# Altium footprint library Synthiam-roundtrip2.PcbLib: 481 footprints (part 7 of 31)
Each footprint in its own frame and in the unit in brackets; x right, y up, seen from the top. Pads: shape width x height; smd on the part's side, far side on the other; paste and mask are expansions set on the pad; w line width, h text height; cw(c..) or ccw(c..) is an arc to the next point about the centre after c.
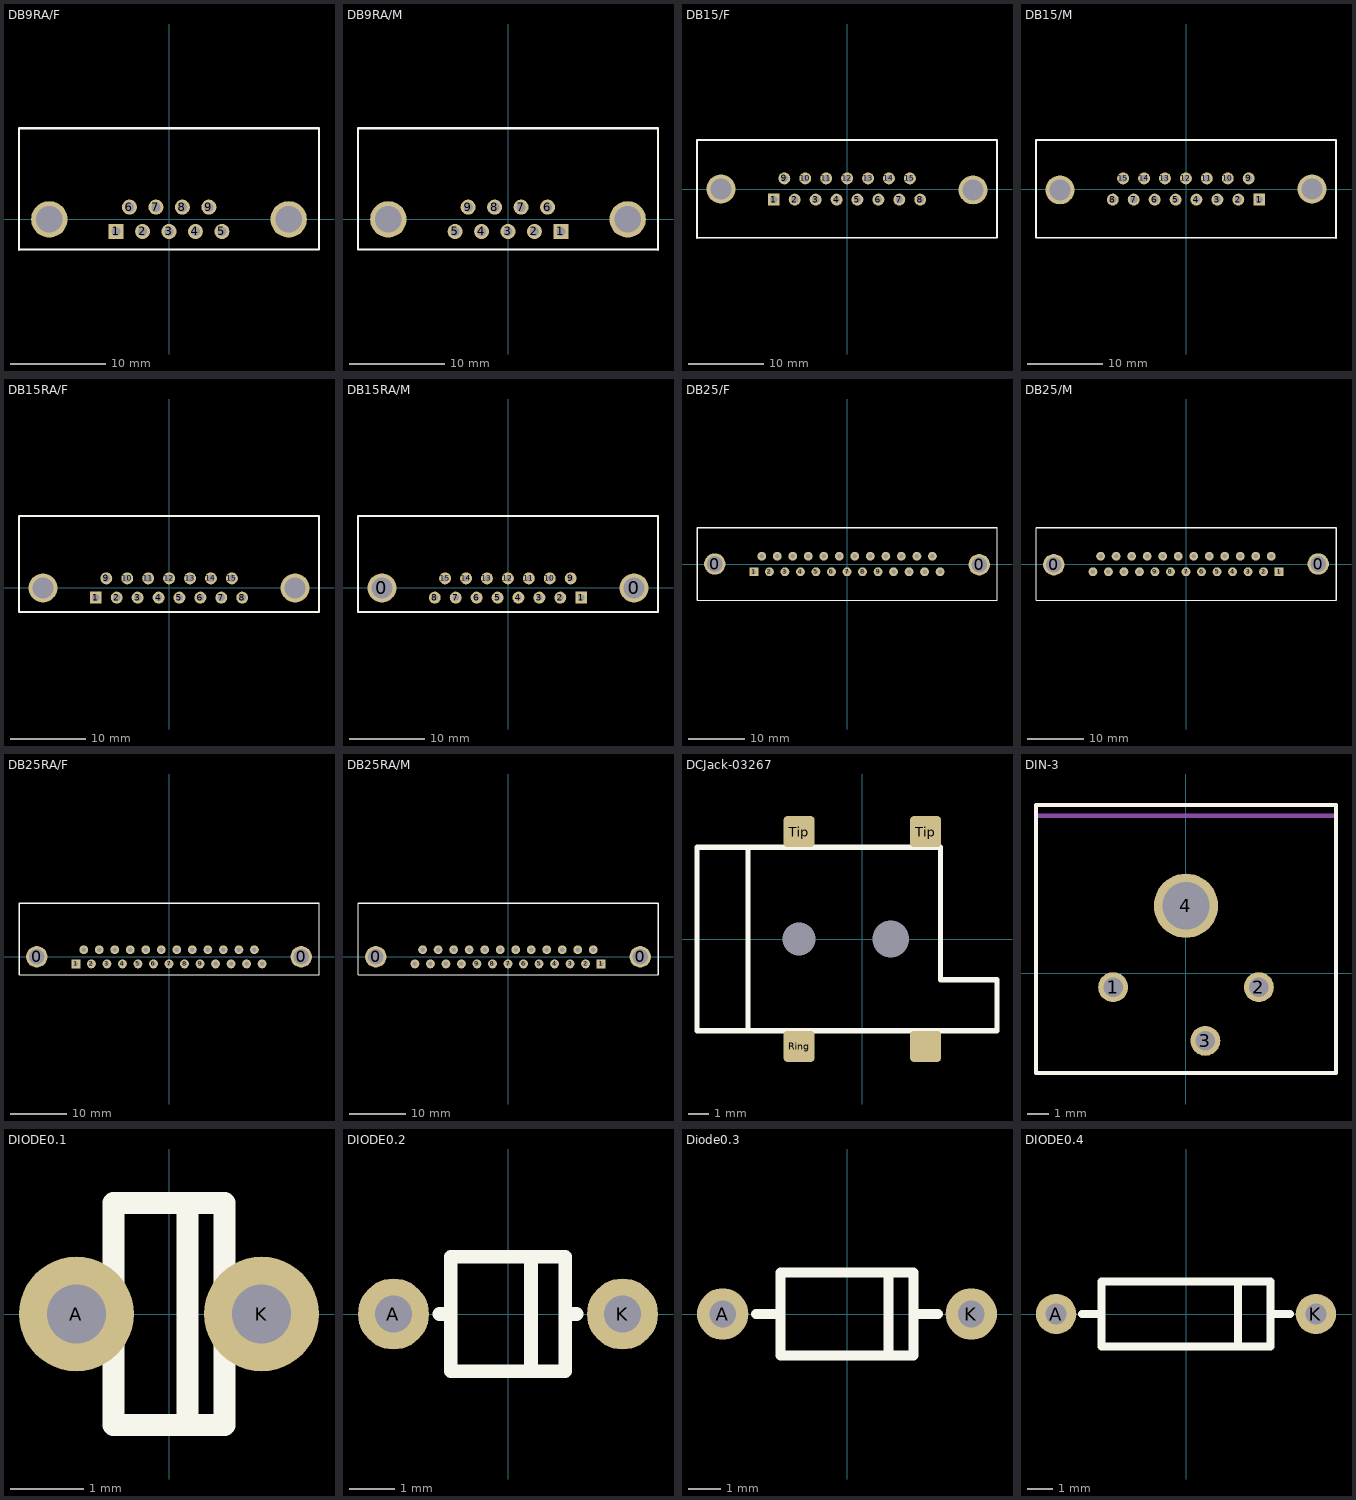
[diagram p6: the footprints below, top view; thin cyan lines are the x and y axes]

## DB9RA/F [mil]
pads (11):
  rect 62x62 hole 38: 1(-218,-50)
  round 62 hole 38: 2(-109,-50) 3(0,-50) 4(109,-50) 5(218,-50) 6(-163,50) 7(-54,50) 8(55,50) 9(164,50)
  round 150 hole 110: ""(-493,0) ""(493,0)
Top Overlay:
  lines w8: -618,-125 618,-125 618,375
  lines w10: -618,-125 -618,375 618,375

## DB9RA/M [mil]
pads (11):
  rect 62x62 hole 38: 1(218,-50)
  round 62 hole 38: 2(109,-50) 3(0,-50) 4(-109,-50) 5(-218,-50) 6(163,50) 7(54,50) 8(-55,50) 9(-164,50)
  round 150 hole 110: ""(-493,0) ""(493,0)
Top Overlay:
  lines w8: -618,375 -618,-125 618,-125
  lines w10: -618,375 618,375 618,-125

## DB15/F [mil]
pads (17):
  rect 62x62 hole 38: 1(-381.5,-55)
  round 62 hole 38: 2(-272.5,-55) 3(-163.5,-55) 4(-54.5,-55) 5(54.5,-55) 6(163.5,-55) 7(272.5,-55) 8(381.5,-55) 9(-326.5,55) 10(-217.5,55) 11(-108.5,55) 12(0.5,55) 13(109.5,55) 14(218.5,55) 15(327.5,55)
  round 150 hole 110: ""(-656.5,0) ""(656.5,-5)
Top Overlay:
  lines w8: -781.5,-255 781.5,-255 781.5,255
  lines w10: -781.5,-255 -781.5,255 781.5,255

## DB15/M [mil]
pads (17):
  rect 62x62 hole 38: 1(381.5,-55)
  round 62 hole 38: 2(272.5,-55) 3(163.5,-55) 4(54.5,-55) 5(-54.5,-55) 6(-163.5,-55) 7(-272.5,-55) 8(-381.5,-55) 9(326.5,55) 10(217.5,55) 11(108.5,55) 12(-0.5,55) 13(-109.5,55) 14(-218.5,55) 15(-327.5,55)
  round 150 hole 110: ""(-656.5,-5) ""(656.5,0)
Top Overlay:
  lines w8: -781.5,255 -781.5,-255 781.5,-255
  lines w10: -781.5,255 781.5,255 781.5,-255

## DB15RA/F [mil]
pads (17):
  rect 62x62 hole 38: 1(-381.5,-50)
  round 62 hole 38: 2(-272.5,-50) 3(-163.5,-50) 4(-54.5,-50) 5(54.5,-50) 6(163.5,-50) 7(272.5,-50) 8(381.5,-50) 9(-326.5,50) 10(-217.5,50) 11(-108.5,50) 12(0.5,50) 13(109.5,50) 14(218.5,50) 15(327.5,50)
  round 150 hole 110: ""(-656.5,0) ""(656.5,0)
Top Overlay:
  lines w8: -781.5,-125 781.5,-125 781.5,375
  lines w10: -781.5,-125 -781.5,375 781.5,375

## DB15RA/M [mil]
pads (17):
  round 150 hole 110: 0(-656.5,0) 0(656.5,0)
  rect 62x62 hole 32: 1(381.5,-50)
  round 62 hole 32: 2(272.5,-50) 3(163.5,-50) 4(54.5,-50) 5(-54.5,-50) 6(-163.5,-50) 7(-272.5,-50) 8(-381.5,-50) 9(326.5,50) 10(217.5,50) 11(108.5,50) 12(-0.5,50) 13(-109.5,50) 14(-218.5,50) 15(-327.5,50)
Top Overlay:
  lines w8: -781.5,375 -781.5,-125 781.5,-125
  lines w10: -781.5,375 781.5,375 781.5,-125

## DB25/F [mil]
pads (27):
  round 150 hole 110: 0(-929,0) 0(929,-5)
  rect 62x62 hole 32: 1(-654,-55)
  round 62 hole 32: 2(-545,-55) 3(-436,-55) 4(-327,-55) 5(-218,-55) 6(-109,-55) 7(0,-55) 8(109,-55) 9(218,-55) 10(327,-55) 11(436,-55) 12(545,-55) 13(654,-55) 14(-599,55) 15(-490,55) 16(-381,55) 17(-272,55) 18(-163,55) 19(-54,55) 20(55,55) 21(164,55) 22(273,55) 23(382,55) 24(491,55) 25(600,55)
Top Overlay:
  lines w8: -1054,-255 1054,-255 1054,255
  lines w10: -1054,-255 -1054,255 1054,255

## DB25/M [mil]
pads (27):
  round 150 hole 110: 0(-929,-5) 0(929,0)
  rect 62x62 hole 32: 1(654,-55)
  round 62 hole 32: 2(545,-55) 3(436,-55) 4(327,-55) 5(218,-55) 6(109,-55) 7(0,-55) 8(-109,-55) 9(-218,-55) 10(-327,-55) 11(-436,-55) 12(-545,-55) 13(-654,-55) 14(599,55) 15(490,55) 16(381,55) 17(272,55) 18(163,55) 19(54,55) 20(-55,55) 21(-164,55) 22(-273,55) 23(-382,55) 24(-491,55) 25(-600,55)
Top Overlay:
  lines w8: -1054,255 -1054,-255 1054,-255
  lines w10: -1054,255 1054,255 1054,-255

## DB25RA/F [mil]
pads (27):
  round 150 hole 110: 0(-929,0) 0(929,0)
  rect 62x62 hole 32: 1(-654,-50)
  round 62 hole 32: 2(-545,-50) 3(-436,-50) 4(-327,-50) 5(-218,-50) 6(-109,-50) 7(0,-50) 8(109,-50) 9(218,-50) 10(327,-50) 11(436,-50) 12(545,-50) 13(654,-50) 14(-599,50) 15(-490,50) 16(-381,50) 17(-272,50) 18(-163,50) 19(-54,50) 20(55,50) 21(164,50) 22(273,50) 23(382,50) 24(491,50) 25(600,50)
Top Overlay:
  lines w8: -1054,-125 1054,-125 1054,375
  lines w10: -1054,-125 -1054,375 1054,375

## DB25RA/M [mil]
pads (27):
  round 150 hole 110: 0(-929,0) 0(929,0)
  rect 62x62 hole 32: 1(654,-50)
  round 62 hole 32: 2(545,-50) 3(436,-50) 4(327,-50) 5(218,-50) 6(109,-50) 7(0,-50) 8(-109,-50) 9(-218,-50) 10(-327,-50) 11(-436,-50) 12(-545,-50) 13(-654,-50) 14(599,50) 15(490,50) 16(381,50) 17(272,50) 18(163,50) 19(54,50) 20(-55,50) 21(-164,50) 22(-273,50) 23(-382,50) 24(-491,50) 25(-600,50)
Top Overlay:
  lines w8: -1054,375 -1054,-125 1054,-125
  lines w10: -1054,375 1054,375 1054,-125

## DCJack-03267 [mil] "4UConn DC Jack, 03267"
height 433.07
pads (6):
  round 0 hole 62.99: 5(-122.05,0)
  round 0 hole 70.87: 6(55.12,0)
  rrect25% 60x60 all layers, no hole: NC-Ring(122.05,-207.17) Ring(-122.05,-207.17) Tip(-122.05,207.17) Tip(122.05,207.17)
Top Overlay:
  lines w10: -220.47,-177.17 -220.47,177.17 ; -318.9,-177.17 -318.9,177.17 151.1,177.17 151.1,-78.74 259.84,-78.74 259.84,-177.17 -318.9,-177.17

## DIN-3 [mm]
pads (4):
  round 1.4 hole 0.9: 1(-3.4,-0.65) 2(3.4,-0.65) 3(0.9,-3.15)
  round 3 hole 2.2: 4(0,3.15)
Top Overlay:
  lines w0.203: -7,-4.65 7,-4.65 7,7.85 -7,7.85 -7,-4.65
Mechanical 1:
  lines w0.203: -7,7.35 7,7.35

## DIODE0.1 [mil]
pads (2):
  round 62 hole 32: A(-50,0) K(50,0)
Top Overlay:
  lines w12: 10,-60 10,60 ; -30,-60 30,-60 30,60 -30,60 -30,-60

## DIODE0.2 [mil]
pads (2):
  round 62 hole 32: A(-100,0) K(100,0)
Top Overlay:
  lines w12: -60,0 -50,0 ; 20,-50 20,50 ; 50,0 60,0 ; -50,-50 -50,50 50,50 50,-50 -50,-50

## Diode0.3 [mil]
pads (2):
  round 62 hole 32: A(-150,0) K(150,0)
Top Overlay:
  lines w12: -110,0 -80,0 ; 50,-50 50,50 ; 80,0 110,0 ; -80,-50 80,-50 80,50 -80,50 -80,-50

## DIODE0.4 [mil]
pads (2):
  round 62 hole 32: A(-200,0) K(200,0)
Top Overlay:
  lines w12: -160,0 -130,0 ; 80,-50 80,50 ; 130,0 160,0 ; -130,-50 -130,50 130,50 130,-50 -130,-50